# Altium footprint library boost.PcbLib: 9 footprints
Each footprint in its own frame and in the unit in brackets; x right, y up, seen from the top. Pads: shape width x height; smd on the part's side, far side on the other; paste and mask are expansions set on the pad; w line width, h text height; cw(c..) or ccw(c..) is an arc to the next point about the centre after c.
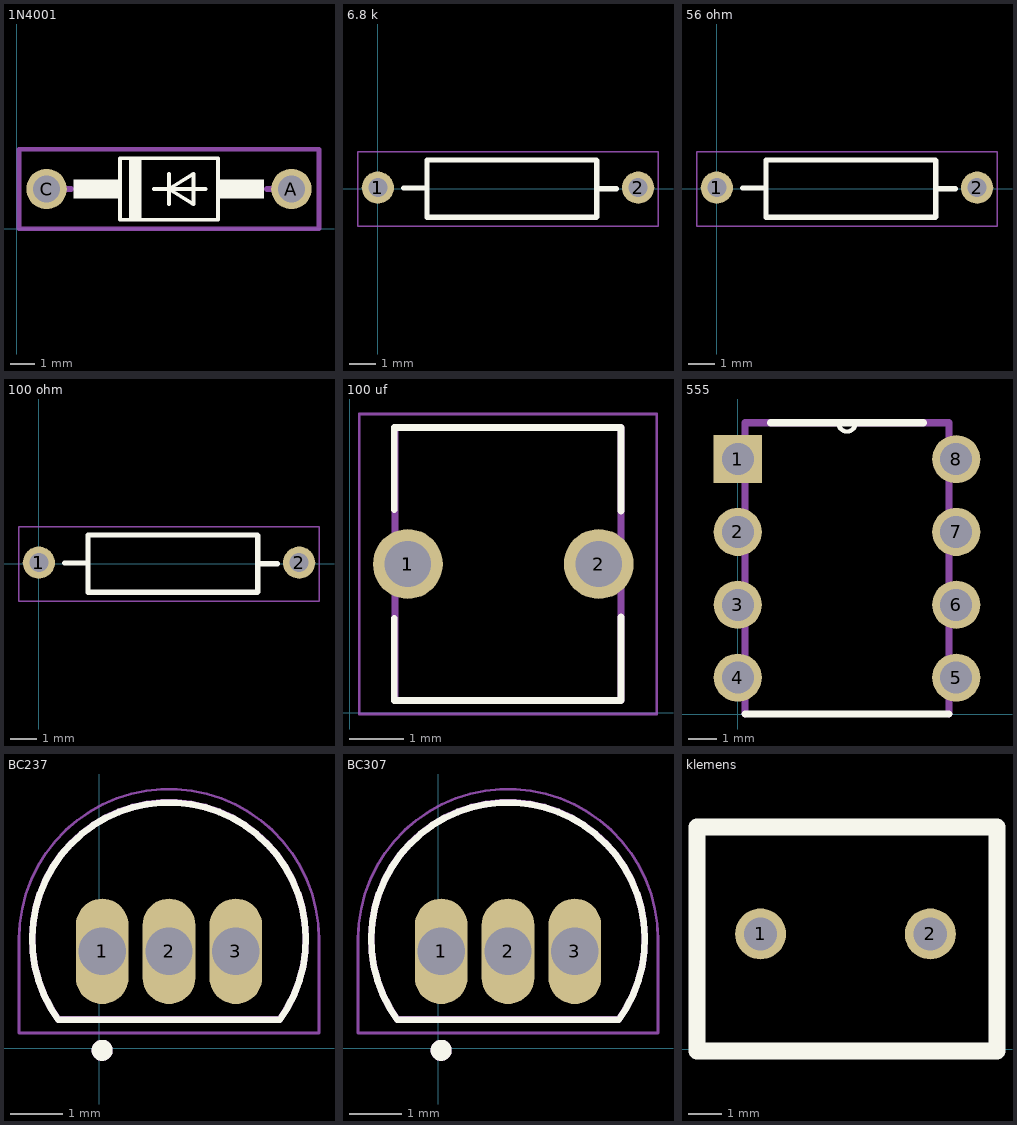
[diagram p0: the footprints below, top view; thin cyan lines are the x and y axes]

## 1N4001 [mil]
pads (2):
  round 66 hole 44: A(448.39,64.8) C(48.39,64.8)
Top Overlay:
  region: 183.31,114.8 203.39,114.8 203.39,14.75 183.31,14.75
  region: 328.52,79.8 403.39,79.8 403.39,49.78 328.52,49.78
  region: 93.18,79.8 168.39,79.8 168.39,49.78 93.18,49.78
  lines w6: 223.39,64.8 248.39,64.8 ; 248.39,39.8 248.39,64.8 ; 248.39,89.8 248.39,64.8 ; 308.39,64.8 248.39,64.8 ; 248.39,64.8 288.39,39.8 288.39,89.8 248.39,64.8 ; 168.39,14.8 328.39,14.8 328.39,114.8 168.39,114.8 168.39,14.8
Mechanical 1:
  lines w7.87: 3.39,-0.2 135.89,-0.2 360.89,-0.2 411.51,-0.2 452.76,-0.2 493.39,-0.2 493.39,21.05 493.39,129.8 3.39,129.8 3.39,88.55 3.39,36.05 3.39,-0.2
Mechanical 4:
  lines w10: 48.39,64.8 88.39,64.8 48.39,64.8 ; 408.39,64.8 448.39,64.8 408.39,64.8
3D body "Diode 1N4001.stp": height 98.43, standoff -90.55, extent 38.19,19.68 453.94,118.11

## 6.8 k [mm]
pads (3):
  round 1.238 hole 0.73: 1(0.012,0.039) 1(0.012,0.039) 2(10.012,0.039)
Top Overlay:
  lines w0.2: 1,0.025 1.9,0.025 ; 8.425,0 9.175,0 ; 1.9,0.025 1.9,-1.1 8.4,-1.1 8.425,-1.075 8.425,1.075 8.4,1.1 1.9,1.1 1.9,0.025
Mechanical 15:
  lines w0.05: -0.75,-1.45 -0.75,1.425 10.775,1.425 10.775,-1.45 -0.75,-1.45
3D body "User Library-Res50-Axial 0_5W-6_8K.step": height 3.37, standoff -6, extent -1.475,-1.875 11.975,1.875

## 56 ohm [mm]
pads (3):
  round 1.238 hole 0.73: 1(0.012,0.039) 1(0.012,0.039) 2(10.012,0.039)
Top Overlay:
  lines w0.2: 1,0.025 1.9,0.025 ; 8.425,0 9.175,0 ; 1.9,0.025 1.9,-1.1 8.4,-1.1 8.425,-1.075 8.425,1.075 8.4,1.1 1.9,1.1 1.9,0.025
Mechanical 15:
  lines w0.05: -0.75,-1.45 -0.75,1.425 10.775,1.425 10.775,-1.45 -0.75,-1.45
3D body "User Library-Res50-Axial 0_5W-56R.step": height 3.37, standoff -6, extent -1.725,-1.75 11.725,2

## 100 ohm [mm]
pads (3):
  round 1.238 hole 0.73: 1(0.012,0.039) 1(0.012,0.039) 2(10.012,0.039)
Top Overlay:
  lines w0.2: 1,0.025 1.9,0.025 ; 8.425,0 9.175,0 ; 1.9,0.025 1.9,1.1 8.4,1.1 8.425,1.075 8.425,-1.075 8.4,-1.1 1.9,-1.1 1.9,0.025
Mechanical 15:
  lines w0.05: -0.75,-1.45 10.775,-1.45 10.775,1.425 -0.75,1.425 -0.75,-1.45
3D body "User Library-Res50-Axial 0_5W-100R.step": height 3.37, standoff -6, extent -1.725,-1.75 11.725,2

## 100 uf [mm]
pads (5):
  round 1.28 hole 0.85: 1(1.064,2.728) 1(1.064,2.728) 1(1.064,2.728) 1(1.064,2.728) 2(4.564,2.728)
Top Overlay:
  lines w0.127: 0.814,1.728 0.814,0.228 4.975,0.228 4.975,1.753 ; 0.814,3.728 0.814,5.228 4.975,5.228 4.975,3.703
Mechanical 13:
  lines w0.127: 0.825,0.228 0.825,5.228 4.975,5.228 4.975,0.228 0.825,0.228
Mechanical 15:
  lines w0.05: 0.174,-0.022 0.174,5.478 5.625,5.478 5.625,-0.022 0.174,-0.022
3D body "User Library-UVR1E101MED-100uf 25V-1.step": height 11, standoff -2.5, extent -0.4,-0.5 5.9,5.8

## 555 [mil]
pads (8):
  rect 66x66 hole 44: 1(0,350)
  round 66 hole 44: 2(0,250) 3(0,150) 4(0,50) 5(300,50) 6(300,150) 7(300,250) 8(300,350)
Top Overlay:
  lines w6: 138,400 ccw(c150,400) 162,400
  lines w10: 10,0 290,0 ; 45,400 138,400 162,400 255,400
Mechanical 13:
  lines w0: 10,0 290,0 ; -22,28 10,28 10,72 -22,72 -22,28 ; -22,128 10,128 10,172 -22,172 -22,128 ; -22,228 10,228 10,272 -22,272 -22,228 ; -22,328 10,328 10,372 -22,372 -22,328 ; 138,400 ccw(c150,400) 162,400 138,400 ; 290,28 322,28 322,72 290,72 290,28 ; 290,128 322,128 322,172 290,172 290,128 ; 290,228 322,228 322,272 290,272 290,228 ; 290,328 322,328 322,372 290,372 290,328
  lines w10: 10,0 10,400 138,400 ; 162,400 290,400 290,300 290,100 290,0
3D body "CI 555.STEP": height 140.16, standoff -84.69, extent -0.79,3.15 314.96,410.24

## BC237 [mm]
pads (3):
  oval 1x2 hole 0.9: 1(0.054,1.837) 2(1.324,1.837) 3(2.594,1.837)
Top Overlay:
  circle w0.2: c0.054,-0.043 r0.1
  lines w0.127: -0.779,0.539 cw(c1.324,2.067) 3.427,0.539 ; -0.778,0.537 3.426,0.537
Mechanical 4:
  circle w0.2: c0.054,-0.043 r0.1
  circle w0.2: c0.054,-0.043 r0.1
  lines w0.127: -0.779,0.544 cw(c1.324,2.072) 3.427,0.544 ccw(c1.324,2.072) -0.779,0.544 ; -0.778,0.542 3.426,0.542 -0.778,0.542
Mechanical 16:
  lines w0.05: -1.526,0.287 4.174,0.287 4.174,2.072 ccw(c1.324,2.072) -1.526,2.072 -1.526,0.287
3D body "User Library-BC237B Transistors NPN TO-92 (2,54mm).step": height 4.82, standoff -14.7, extent -1.25,0.37 3.51,4

## BC307 [mm]
pads (3):
  oval 1x2 hole 0.9: 1(0.054,1.837) 2(1.324,1.837) 3(2.594,1.837)
Top Overlay:
  circle w0.2: c0.054,-0.043 r0.1
  lines w0.127: -0.779,0.539 cw(c1.324,2.067) 3.427,0.539 ; -0.778,0.537 3.426,0.537
Mechanical 4:
  circle w0.2: c0.054,-0.043 r0.1
  circle w0.2: c0.054,-0.043 r0.1
  lines w0.127: -0.779,0.544 cw(c1.324,2.072) 3.427,0.544 ccw(c1.324,2.072) -0.779,0.544 ; -0.778,0.542 3.426,0.542 -0.778,0.542
Mechanical 16:
  lines w0.05: -1.526,0.287 -1.526,2.072 cw(c1.324,2.072) 4.174,2.072 4.174,0.287 -1.526,0.287
3D body "TO-92.stp": height 4.48, standoff -4.7, extent -1.036,0.5 3.536,4.06

## klemens [mm]
pads (2):
  round 1.524 hole 1: 1(2.65,3.45) 2(7.73,3.45)
Top Overlay:
  lines w0.5: 0.75,-0.05 9.725,-0.05 9.725,6.65 0.75,6.65 0.75,-0.05
3D body "tb5p-2p_p5_l10_w7-6_h10.stp": height 10, standoff -4.1, extent -0.35,0.375 10.25,7.975